# Altium footprint library TQFP50P900X900X160-48N.PcbLib: 1 footprints
Each footprint in its own frame and in the unit in brackets; x right, y up, seen from the top. Pads: shape width x height; smd on the part's side, far side on the other; paste and mask are expansions set on the pad; w line width, h text height; cw(c..) or ccw(c..) is an arc to the next point about the centre after c.
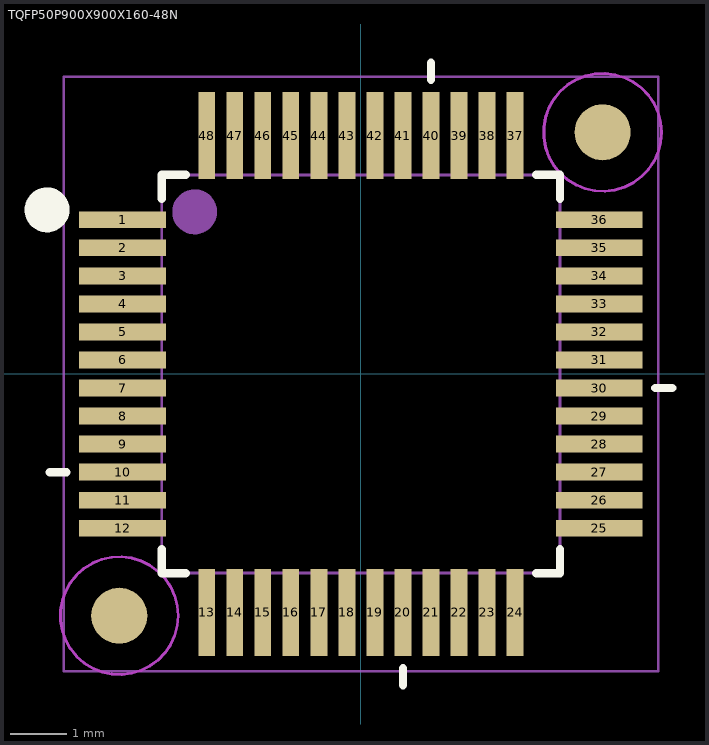
[diagram p0: the footprint, top view; thin cyan lines are the x and y axes]

## TQFP50P900X900X160-48N [mm]
height 1.6
pads (50):
  rect 1.55x0.3 smd mask+0.05: 1(-4.25,2.75) 2(-4.25,2.25) 3(-4.25,1.75) 4(-4.25,1.25) 5(-4.25,0.75) 6(-4.25,0.25) 7(-4.25,-0.25) 8(-4.25,-0.75) 9(-4.25,-1.25) 10(-4.25,-1.75) 11(-4.25,-2.25) 12(-4.25,-2.75) 25(4.25,-2.75) 26(4.25,-2.25) 27(4.25,-1.75) 28(4.25,-1.25) 29(4.25,-0.75) 30(4.25,-0.25) 31(4.25,0.25) 32(4.25,0.75) 33(4.25,1.25) 34(4.25,1.75) 35(4.25,2.25) 36(4.25,2.75)
  rect 0.3x1.55 smd mask+0.05: 13(-2.75,-4.25) 14(-2.25,-4.25) 15(-1.75,-4.25) 16(-1.25,-4.25) 17(-0.75,-4.25) 18(-0.25,-4.25) 19(0.25,-4.25) 20(0.75,-4.25) 21(1.25,-4.25) 22(1.75,-4.25) 23(2.25,-4.25) 24(2.75,-4.25) 37(2.75,4.25) 38(2.25,4.25) 39(1.75,4.25) 40(1.25,4.25) 41(0.75,4.25) 42(0.25,4.25) 43(-0.25,4.25) 44(-0.75,4.25) 45(-1.25,4.25) 46(-1.75,4.25) 47(-2.25,4.25) 48(-2.75,4.25)
  round 1 smd mask+0.5: ""(-4.31,-4.31) ""(4.31,4.31)
Top Layer keep-out:
  circle w0.05: c4.31,4.31 r1.051
  circle w0.05: c-4.31,-4.31 r1.051
Top Overlay:
  circle w0.4: c-5.597,2.926 r0.2
  lines w0.15: -5.55,-1.75 -5.25,-1.75 ; -3.55,-3.125 -3.55,-3.55 -3.125,-3.55 ; -3.55,3.125 -3.55,3.55 -3.125,3.55 ; 0.75,-5.55 0.75,-5.25 ; 1.25,5.25 1.25,5.55 ; 3.125,-3.55 3.55,-3.55 3.55,-3.125 ; 3.125,3.55 3.55,3.55 3.55,3.125 ; 5.25,-0.25 5.55,-0.25
Mechanical 13:
  circle w0.4: c-2.965,2.891 r0.2
  lines w0.05: -3.55,-3.55 -3.55,3.55 3.55,3.55 3.55,-3.55 -3.55,-3.55
  text ".Designator" at -3.198,-0.225 h0.64
Mechanical 15:
  circle w0.05: c4.31,4.31 r1.051
  circle w0.05: c-4.31,-4.31 r1.051
  lines w0.05: -5.3,-5.3 -5.3,5.3 5.3,5.3 5.3,-5.3 -5.3,-5.3
3D body: height 1.6, standoff 0, extent -3.549,-3.549 3.549,3.549